# EAGLE library part DVIULC6-4SC6 (library DSDEagleLibrary)
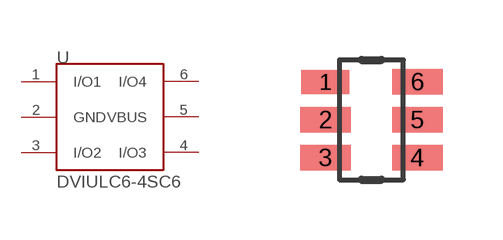
[diagram p49: symbol with the pads of SOT23-6L; footprint SOT23-6L]

Designator prefix U

## DVIULC6-4SC6  [SOT23-6L]
1  I/O1
2  GND
3  I/O2
4  I/O3
5  VBUS
6  I/O4

## Footprint SOT23-6L (pad centres in mm)
smd 1.2 x 0.6: 1 -1.15,0.95
smd 1.27 x 0.635: 2 -1.15,0; 3 -1.15,-0.95; 4 1.15,-0.95; 5 1.15,0; 6 1.15,0.95